# Altium schematic symbol library SI LABS SI8630.SchLib: 1 symbol
Pins are listed as number, name and electrical type; pins without a type are passive.

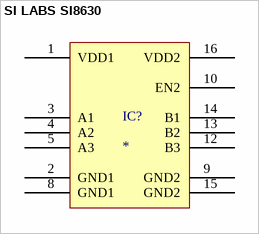
[diagram p0: symbol SI LABS SI8630]

## SI LABS SI8630
designator IC?
pins: 1 VDD1, 2 GND1, 3 A1, 4 A2, 5 A3, 8 GND1, 9 GND2, 10 EN2, 12 B3, 13 B2, 14 B1, 15 GND2, 16 VDD2